# Altium schematic symbol library C1206C102KCRACTU.SchLib: 1 symbol
Pins are listed as number, name and electrical type; pins without a type are passive.

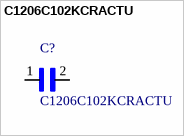
[diagram p0: symbol C1206C102KCRACTU]

## C1206C102KCRACTU
designator C?
/ Capacitor; Ceramic; Cap; 1000pF; Tol+10%; SMT; Vol-Rtg 500V; High Voltage; X7R; TR /; MF: KEMET; Package: 1206 KEMET; SnapEDA_Link: https://www.snapeda.com/parts/C1206C102KCRACTU/KEMET/view-part/?ref=snap; Availability: Unavailable; MP: C1206C102KCRACTU; Price: None; Value: *
footprint *CAPC3216X110N
pins: 1, 2